# Altium footprint library PcbLib1.PcbLib: 5 footprints
Each footprint in its own frame and in the unit in brackets; x right, y up, seen from the top. Pads: shape width x height; smd on the part's side, far side on the other; paste and mask are expansions set on the pad; w line width, h text height; cw(c..) or ccw(c..) is an arc to the next point about the centre after c.
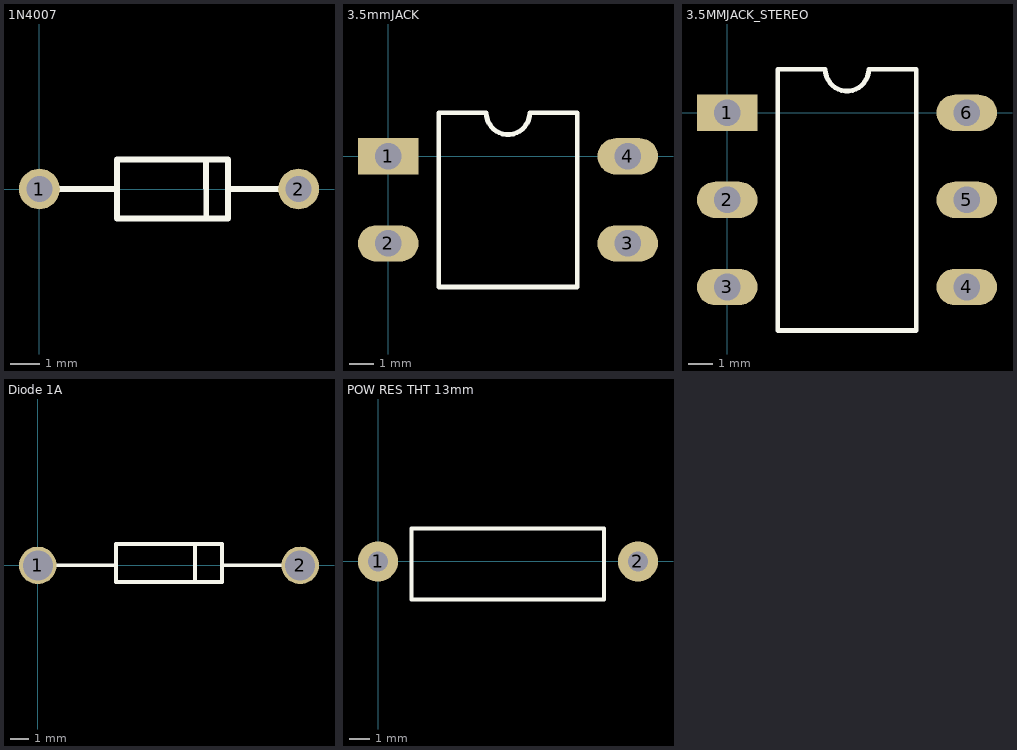
[diagram p0: the footprints below, top view; thin cyan lines are the x and y axes]

## 1N4007 [mm]
pads (2):
  round 1.4 hole 0.9: 1(0,0) 2(8.9,0)
Top Overlay:
  lines w0.2: 0,0 2.667,0 ; 5.717,1.016 5.731,-1.016 ; 6.477,0 8.9,0 ; 2.667,-1.016 2.667,1.016 4.851,1.016 6.477,1.016 6.477,-1.016 2.667,-1.016

## 3.5mmJACK [mm]
pads (4):
  rect 2.5x1.5 hole 1.1: 1(0,0)
  oval 2.5x1.5 hole 1.1: 2(0,-3.6) 3(9.9,-3.6) 4(9.9,0)
Top Overlay:
  lines w0.2: 2.085,-5.4 2.085,1.8 4.05,1.8 ccw(c4.95,1.8) 5.85,1.8 7.815,1.8 7.815,-5.4 2.085,-5.4

## 3.5MMJACK_STEREO [mm]
pads (6):
  rect 2.5x1.5 hole 1.1: 1(0,0)
  oval 2.5x1.5 hole 1.1: 2(0,-3.6) 3(0,-7.2) 4(9.9,-7.2) 5(9.9,-3.6) 6(9.9,0)
Top Overlay:
  lines w0.2: 2.085,-9 2.085,1.8 4.05,1.8 ccw(c4.95,1.8) 5.85,1.8 7.815,1.8 7.815,-9 2.085,-9

## Diode 1A [mm]
pads (2):
  round 2 hole 1.6: 1(0,0) 2(14,0)
Top Overlay:
  lines w0.2: 0,0 4.175,0 ; 8.382,-0.889 8.388,1.143 ; 9.825,0 14,0 ; 4.175,0 4.175,-0.889 9.825,-0.889 9.825,1.143 4.175,1.143 4.175,0

## POW RES THT 13mm [mm]
pads (2):
  round 2 hole 1: 1(0,0) 2(13,0)
Top Overlay:
  lines w0.2: 1.675,-1.905 1.675,1.651 11.303,1.651 11.303,-1.905 1.675,-1.905